# EAGLE library part BULGIN_PX0413/6S/PC (library UIO-John)
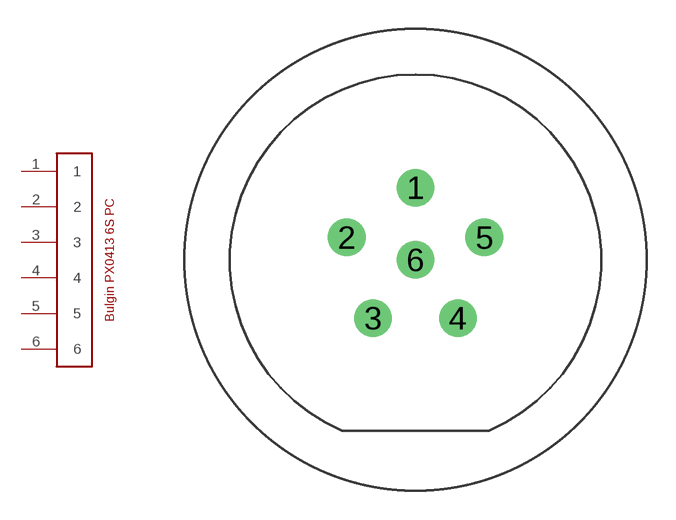
[diagram p3: symbol with the pads of BULGIN_PX0413/6S/PC; footprint BULGIN_PX0413/6S/PC]

Designator prefix -

## BULGIN_PX0413/6S/PC  [BULGIN_PX0413/6S/PC]
1  1
2  2
3  3
4  4
5  5
6  6

## Footprint BULGIN_PX0413/6S/PC (pad centres in mm)
Bulgin Buccaneer PX0447 Mini-USB (C)2017 john.hulth@geo.uio.no
drill 1.3: 1 0,3.75; 2 -3.57,1.16; 3 -2.2,-3.03; 4 2.2,-3.03; 5 3.57,1.16; 6 0,0